# Altium footprint library Footprints_Connectors.PcbLib: 19 footprints (part 1 of 2)
Each footprint in its own frame and in the unit in brackets; x right, y up, seen from the top. Pads: shape width x height; smd on the part's side, far side on the other; paste and mask are expansions set on the pad; w line width, h text height; cw(c..) or ccw(c..) is an arc to the next point about the centre after c.
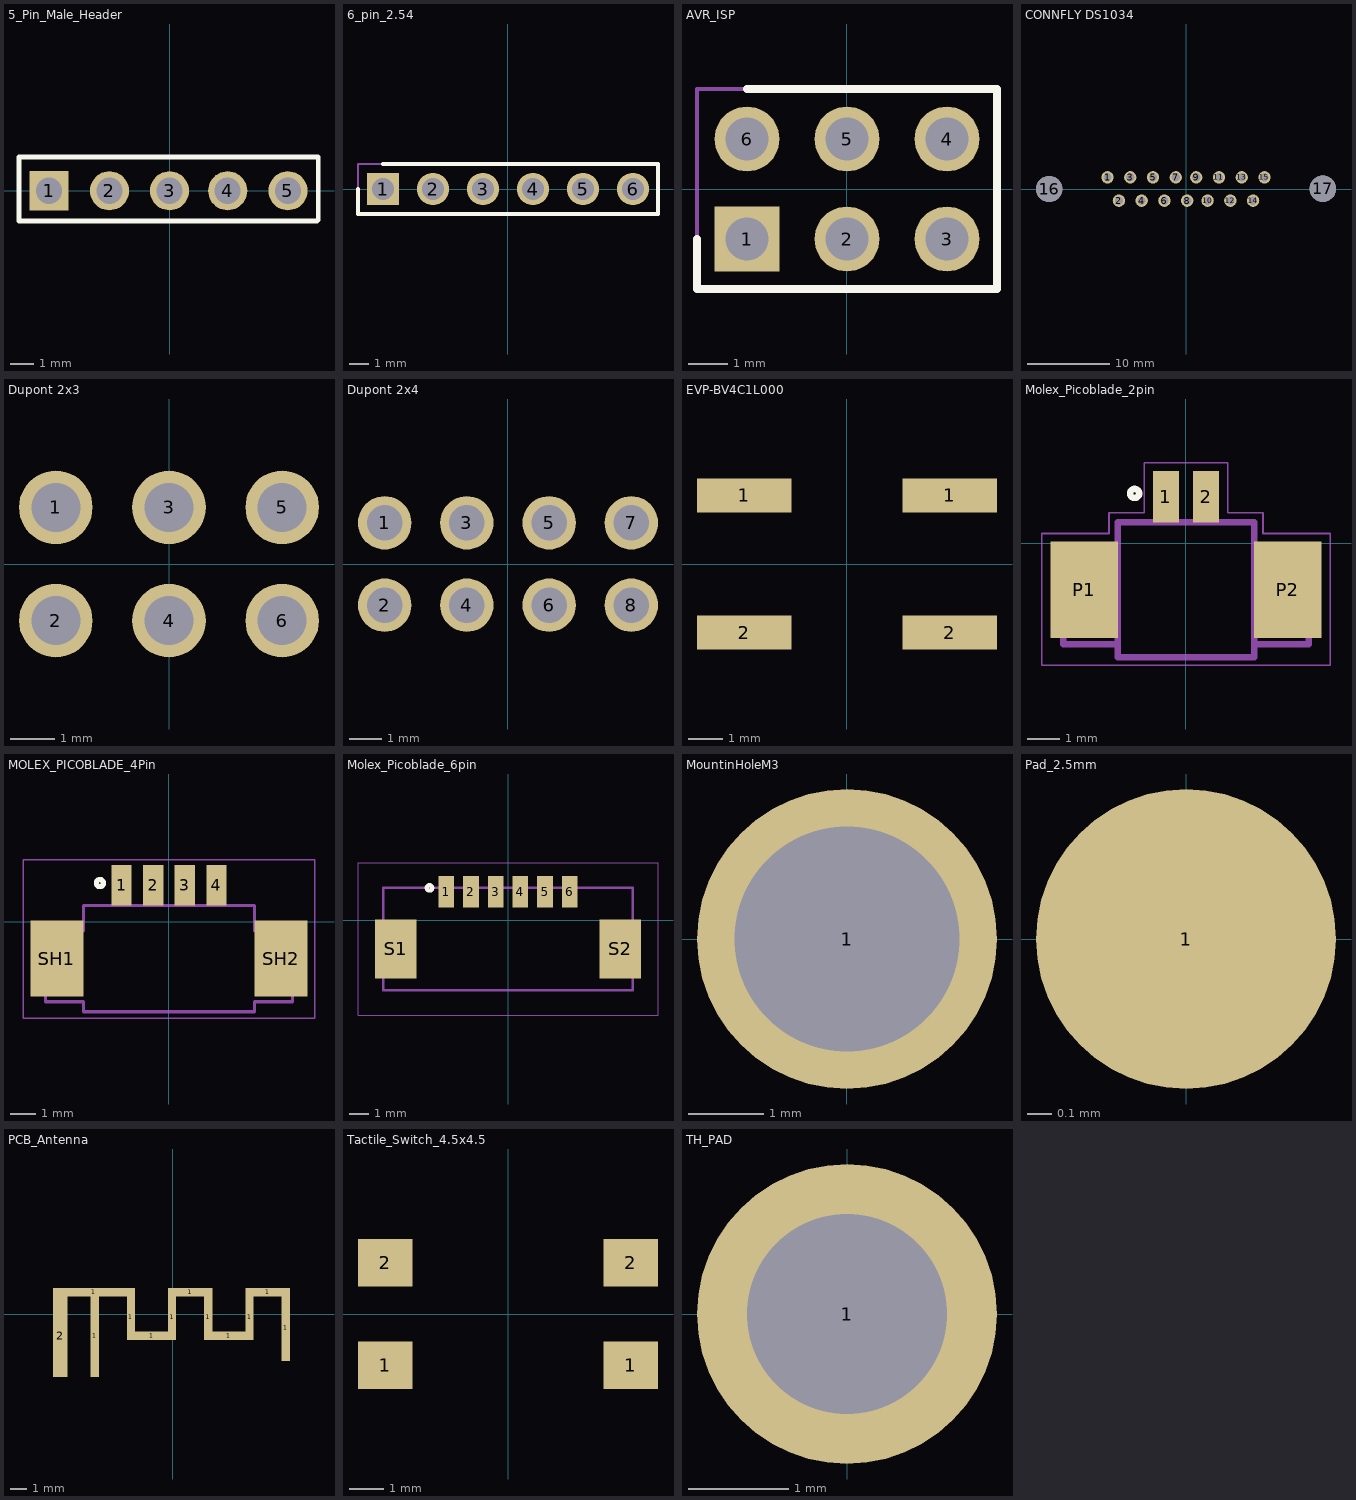
[diagram p0: the footprints below, top view; thin cyan lines are the x and y axes]

## 5_Pin_Male_Header [mm]
pads (5):
  rect 1.65x1.65 / inner round 1.65 / far side rect 1.65x1.65 hole 1.1: 1(-5.08,0)
  round 1.65 hole 1.1: 2(-2.54,0) 3(0,0) 4(2.45,0) 5(4.99,0)
Top Overlay:
  lines w0.2: -6.35,0 -6.35,-1.27 ; 6.23,-1.27 1.27,-1.27 -6.35,-1.27 ; 6.27,-1.23 6.27,1.42 1.27,1.42 -6.35,1.42 -6.35,-1.27
Mechanical 15:
  lines w0.1: 6.29,1.42 -6.35,1.42 -6.35,-1.27 6.3,-1.27 6.3,1.16 6.3,1.41
3D body "87224-5.stp": height 10.38, standoff -3.16, extent -6.147,-1.168 6.147,1.168

## 6_pin_2.54 [mm]
pads (6):
  rect 1.65x1.65 / inner round 1.65 / far side rect 1.65x1.65 hole 1.1: 1(-6.35,0)
  round 1.65 hole 1.1: 2(-3.81,0) 3(-1.27,0) 4(1.27,0) 5(3.81,0) 6(6.35,0)
Top Overlay:
  lines w0.2: -7.62,0 -7.62,-1.27 7.62,-1.27 7.62,1.27 -6.35,1.27
Mechanical 15:
  lines w0.1: -7.62,-1.27 7.62,-1.27 7.62,1.27 -7.62,1.27 -7.62,-1.27
3D body "90120-0766.stp": height 9.26, standoff -2.85, extent -7.62,-1.25 7.62,1.25

## AVR_ISP [mm]
pads (6):
  rect 1.65x1.65 / inner round 1.65 / far side rect 1.65x1.65 hole 1.1: 1(-2.54,-1.27)
  round 1.65 hole 1.1: 2(0,-1.27) 3(2.54,-1.27) 4(2.54,1.27) 5(0,1.27) 6(-2.54,1.27)
Top Overlay:
  lines w0.2: -3.81,-1.27 -3.81,-2.54 3.81,-2.54 3.81,2.54 -2.54,2.54
Mechanical 15:
  lines w0.1: -3.81,-2.54 -3.81,2.54 3.81,2.54 3.81,-2.54 -3.81,-2.54
3D body "M20-9980346.stp": height 8.68, standoff -3, extent -3.82,-2.53 3.8,2.55

## CONNFLY DS1034 [mm]
pads (17):
  round 1.5 hole 1 mask+0.05: 1(-9.555,1.42) 2(-8.17,-1.42) 3(-6.785,1.42) 4(-5.4,-1.42) 5(-4.015,1.42) 6(-2.63,-1.42) 7(-1.245,1.42) 8(0.14,-1.42) 9(1.245,1.42) 10(2.63,-1.42) 11(4.015,1.42) 12(5.4,-1.42) 13(6.785,1.42) 14(8.17,-1.42) 15(9.555,1.42)
  round 3.2 hole 3.2 mask+0.05: 16(-16.66,0) 17(16.66,0.04)
3D body "Db15 male PCB Connector.STEP": height 12.61, standoff -3.98, extent -19.657,-15.533 19.657,3.25

## Dupont 2x3 [mm]
pads (6):
  round 1.65 hole 1.1 mask+0.05: 1(-2.54,1.27) 2(-2.54,-1.27) 3(0,1.27) 4(0,-1.27) 5(2.54,1.27) 6(2.54,-1.27)
3D body "2x3 Male Pin Header Angle.STEP": height 5.01, standoff -2.99, extent -3.812,-13.235 3.813,1.665

## Dupont 2x4 [mm]
pads (8):
  round 1.65 hole 1.1 mask+0.05: 1(-3.81,1.27) 2(-3.81,-1.27) 3(-1.27,1.27) 4(-1.27,-1.27) 5(1.27,1.27) 6(1.27,-1.27) 7(3.81,1.27) 8(3.81,-1.27)
3D body "2x4 Male Pin Header Angle.STEP": height 5.01, standoff -2.99, extent -5.082,-13.185 5.083,1.715

## EVP-BV4C1L000 [mm]
pads (4):
  rect 2.75x1 smd: 1(-3,2) 1(3,2) 2(-3,-2) 2(3,-2)
3D body "EVP-BV4C1L000.stp": height 3.8, standoff 0, extent -4.15,-3.25 4.15,3.25

## Molex_Picoblade_2pin [mm]
pads (4):
  rect 0.8x1.6 smd: 1(-0.625,1.45) 2(0.625,1.45)
  rect 2.1x3 smd: P1(-3.175,-1.45) P2(3.175,-1.45)
Top Overlay:
  circle w0.2: c-1.6,1.55 r0.141
Mechanical 13:
  lines w0.2: -2.125,-3.15 -2.125,-3.55 2.125,-3.55 2.125,-3.15 ; -2.125,-3.15 -2.125,-0.35 ; -2.125,-3.15 -3.825,-3.15 -3.825,-0.35 -2.125,-0.35 ; -2.125,-0.35 -2.125,0.65 2.125,0.65 2.125,-0.35 ; 2.125,-3.15 2.125,-0.35 ; 2.125,-3.15 3.825,-3.15 3.825,-0.35 2.125,-0.35
Mechanical 15:
  lines w0.05: -4.5,-3.8 4.5,-3.8 4.5,0.3 2.4,0.3 2.4,0.95 1.3,0.95 1.3,2.5 -1.3,2.5 -1.3,0.95 -2.4,0.95 -2.4,0.3 -4.5,0.3 -4.5,-3.8
3D body "532610271.stp": height 3.41, standoff 0.01, extent -3.825,-3.6 3.825,1.6

## MOLEX_PICOBLADE_4Pin [mm]
pads (6):
  rect 0.8x1.6 smd: 1(-1.875,1.45) 2(-0.625,1.45) 3(0.625,1.45) 4(1.875,1.45)
  rect 2.1x3 smd: SH1(-4.425,-1.45) SH2(4.425,-1.45)
Top Overlay:
  circle w0.2: c-2.73,1.535 r0.141
Mechanical 13:
  lines w0.127: -4.875,-3.15 -4.875,-0.35 -3.375,-0.35 -3.375,0.65 3.375,0.65 3.375,-0.35 4.875,-0.35 4.875,-3.15 3.375,-3.15 3.375,-3.55 -3.375,-3.55 -3.375,-3.15 -4.875,-3.15
Mechanical 15:
  lines w0.05: -5.75,-3.8 5.75,-3.8 5.75,2.45 -5.75,2.45 -5.75,-3.8
3D body "532610471.stp": height 3.2, standoff -0.2, extent -5.125,-3.33 5.025,1.87

## Molex_Picoblade_6pin [mm]
pads (8):
  rect 0.8x1.6 smd mask+0.076: 1(-3.125,1.45) 2(-1.875,1.45) 3(-0.625,1.45) 4(0.625,1.45) 5(1.875,1.45) 6(3.125,1.45)
  rect 2.1x3 smd mask+0.076: S1(-5.675,-1.45) S2(5.675,-1.45)
Top Overlay:
  circle w0.2: c-3.975,1.635 r0.141
Mechanical 13:
  lines w0.127: -6.325,-3.55 -6.325,1.65 6.325,1.65 6.325,-3.55 -6.325,-3.55
Mechanical 15:
  lines w0.05: -7.595,-4.82 -7.595,2.92 7.595,2.92 7.595,-4.82 -7.595,-4.82
3D body "532610671.stp": height 3.2, standoff -0.2, extent -6.325,-3.3 6.325,1.9

## MountinHoleM3 [mm]
pads (1):
  round 4 hole 3 mask+0.05: 1(0,0)

## Pad_2.5mm [mm]
pads (1):
  round 1.25 smd mask+0.05: 1(0,0)

## PCB_Antenna [mm] "Inverted F_Antenna PCB footprint"
pads (12):
  rect 5x0.5 smd mask+0: 1(-4.8,1.35)
  rect 0.5x5 smd mask+0: 1(-4.75,-1.3)
  rect 0.5x2.74 smd mask+0: 1(-2.55,-0.17) 1(-0.05,-0.17) 1(2.15,-0.17) 1(4.65,-0.17)
  rect 2.1x0.5 smd mask+0: 1(-1.3,-1.29) 1(3.4,-1.29)
  rect 2.7x0.5 smd mask+0: 1(1.05,1.35) 1(5.75,1.35)
  rect 0.5x4.04 smd mask+0: 1(6.85,-0.82)
  rect 0.9x5 smd mask+0: 2(-6.85,-1.3)

## RFID_Antenna [mm]

## Tactile_Switch_4.5x4.5 [mm]
pads (4):
  rect 1.6x1.4 smd mask+0.05: 1(-3.6,-1.5) 1(3.6,-1.5) 2(-3.6,1.5) 2(3.6,1.5)
3D body "TL3305AF160QG.stp": height 3.8, standoff -0.1, extent -3.78,-2.26 3.72,2.24

## TH_PAD [mm]
pads (1):
  round 3 hole 2 mask+0.05: 1(0,0)